# Altium schematic symbol library TFT_SPI_480x320_V1.1.SchLib: 1 symbol
Pins are listed as number, name and electrical type; pins without a type are passive.

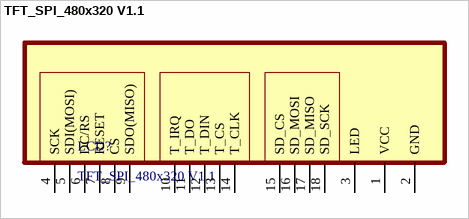
[diagram p0: symbol TFT_SPI_480x320 V1.1]

## TFT_SPI_480x320 V1.1
designator LCD?
footprint LCD_TFT_4.0"
pins: 1 VCC, 2 GND, 3 LED, 4 SCK, 5 SDI(MOSI), 6 DC/RS, 7 RESET, 8 CS, 9 SDO(MISO), 10 T_IRQ, 11 T_DO, 12 T_DIN, 13 T_CS, 14 T_CLK, 15 SD_CS, 16 SD_MOSI, 17 SD_MISO, 18 SD_SCK